# Altium schematic symbol library TPS51225RUKR.SchLib: 1 symbol
Pins are listed as number, name and electrical type; pins without a type are passive.

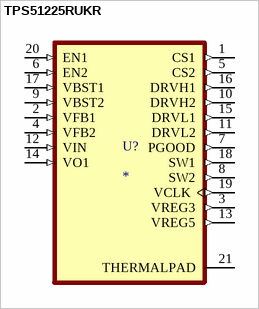
[diagram p0: symbol TPS51225RUKR]

## TPS51225RUKR
designator U?
MP: TPS51225RUKR; MF: {'manufacturer': u'Texas Instruments'}; Package: None; Value: *; Price: None; Availability: Unavailable
footprint QFN40P300X300X80-21N
pins: 1 CS1 (out), 2 VFB1 (in), 3 VREG3 (out), 4 VFB2 (in), 5 CS2 (out), 6 EN2 (in), 7 PGOOD (out), 8 SW2 (out), 9 VBST2 (in), 10 DRVH2 (out), 11 DRVL2 (out), 12 VIN (in), 13 VREG5 (out), 14 VO1 (in), 15 DRVL1 (out), 16 DRVH1 (out), 17 VBST1 (in), 18 SW1 (out), 19 VCLK (out), 20 EN1 (in), 21 THERMALPAD (power)